# Altium footprint library PC817C.PcbLib: 1 footprints
Each footprint in its own frame and in the unit in brackets; x right, y up, seen from the top. Pads: shape width x height; smd on the part's side, far side on the other; paste and mask are expansions set on the pad; w line width, h text height; cw(c..) or ccw(c..) is an arc to the next point about the centre after c.
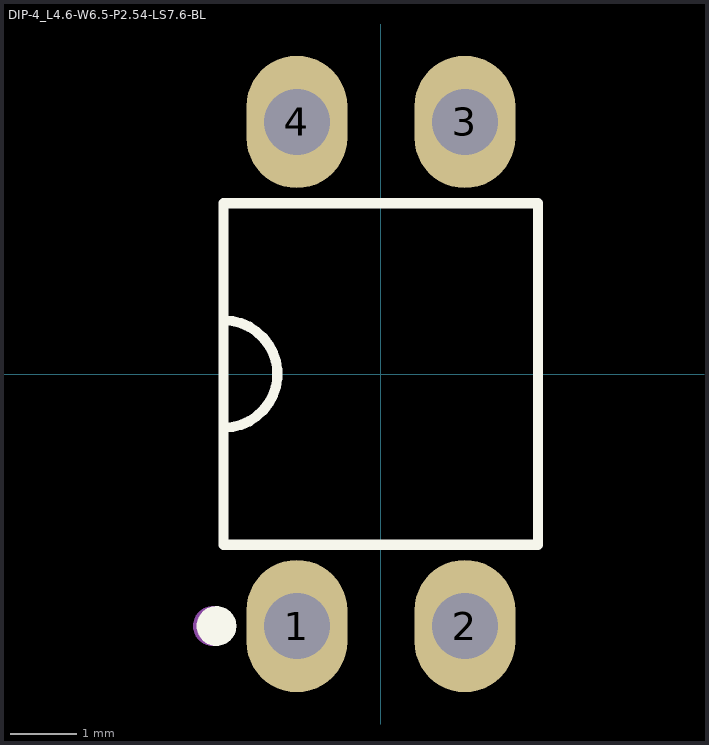
[diagram p0: the footprint, top view; thin cyan lines are the x and y axes]

## DIP-4_L4.6-W6.5-P2.54-LS7.6-BL [mm]
pads (4):
  oval 1.524x2 hole 1 paste-2539.97 mask+0.051: 1(-1.27,-3.81) 2(1.27,-3.81) 3(1.27,3.81) 4(-1.27,3.81)
Top Overlay:
  circle w0.3: c-2.484,-3.81 r0.15
  lines w0.152: -2.376,-0.812 ccw(c-2.376,0) -2.376,0.812 ; -2.376,-2.581 2.376,-2.581 2.376,2.581 -2.376,2.581 -2.376,-2.581
Mechanical 15:
  circle w0.3: c-2.54,-3.81 r0.15
3D body "PC817C.STEP": height 4.8, standoff -3.3, extent -2.29,-3.94 2.29,3.94